# Altium footprint library DA2034-AL.PcbLib: 1 footprints
Each footprint in its own frame and in the unit in brackets; x right, y up, seen from the top. Pads: shape width x height; smd on the part's side, far side on the other; paste and mask are expansions set on the pad; w line width, h text height; cw(c..) or ccw(c..) is an arc to the next point about the centre after c.
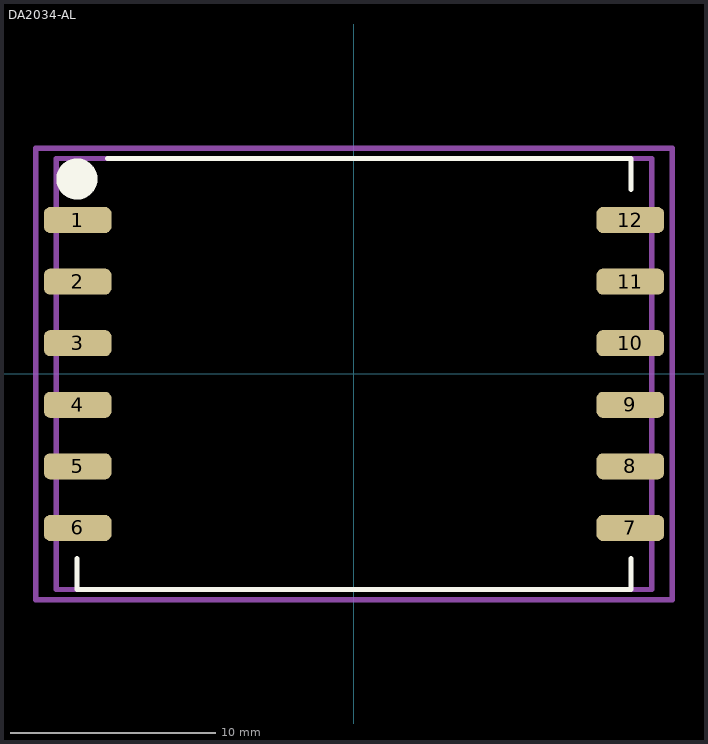
[diagram p0: the footprint, top view; thin cyan lines are the x and y axes]

## DA2034-AL [mm]
pads (12):
  rrect50% 3.3x1.27 smd mask+0.05: 1(-13.46,7.5) 2(-13.46,4.5) 3(-13.46,1.5) 4(-13.46,-1.5) 5(-13.46,-4.5) 6(-13.46,-7.5) 7(13.46,-7.5) 8(13.46,-4.5) 9(13.46,-1.5) 10(13.46,1.5) 11(13.46,4.5) 12(13.46,7.5)
Top Overlay:
  circle w1: c-13.5,9.5 r0.5
  lines w0.254: -13.5,-9 -13.5,-10.5 -12,-10.5 13.5,-10.5 13.5,-9 ; -12,10.5 13.5,10.5 13.5,9
Top Assembly:
  lines w0.254: -14.5,-10.5 -14.5,10.5 14.5,10.5 14.5,-10.5 -14.5,-10.5
Top Courtyard:
  lines w0.254: -15.5,-11 15.5,-11 15.5,11 -15.5,11 -15.5,-8 -15.5,-11
3D body "Coilcraft-DA2034-AL.step": height 11.38, standoff -0.05, extent -14.325,-10.285 14.325,10.285